# Altium schematic symbol library Velvet_Controller_v1.1_2022.SchLib: 36 symbols
Pins are listed as number, name and electrical type; pins without a type are passive.

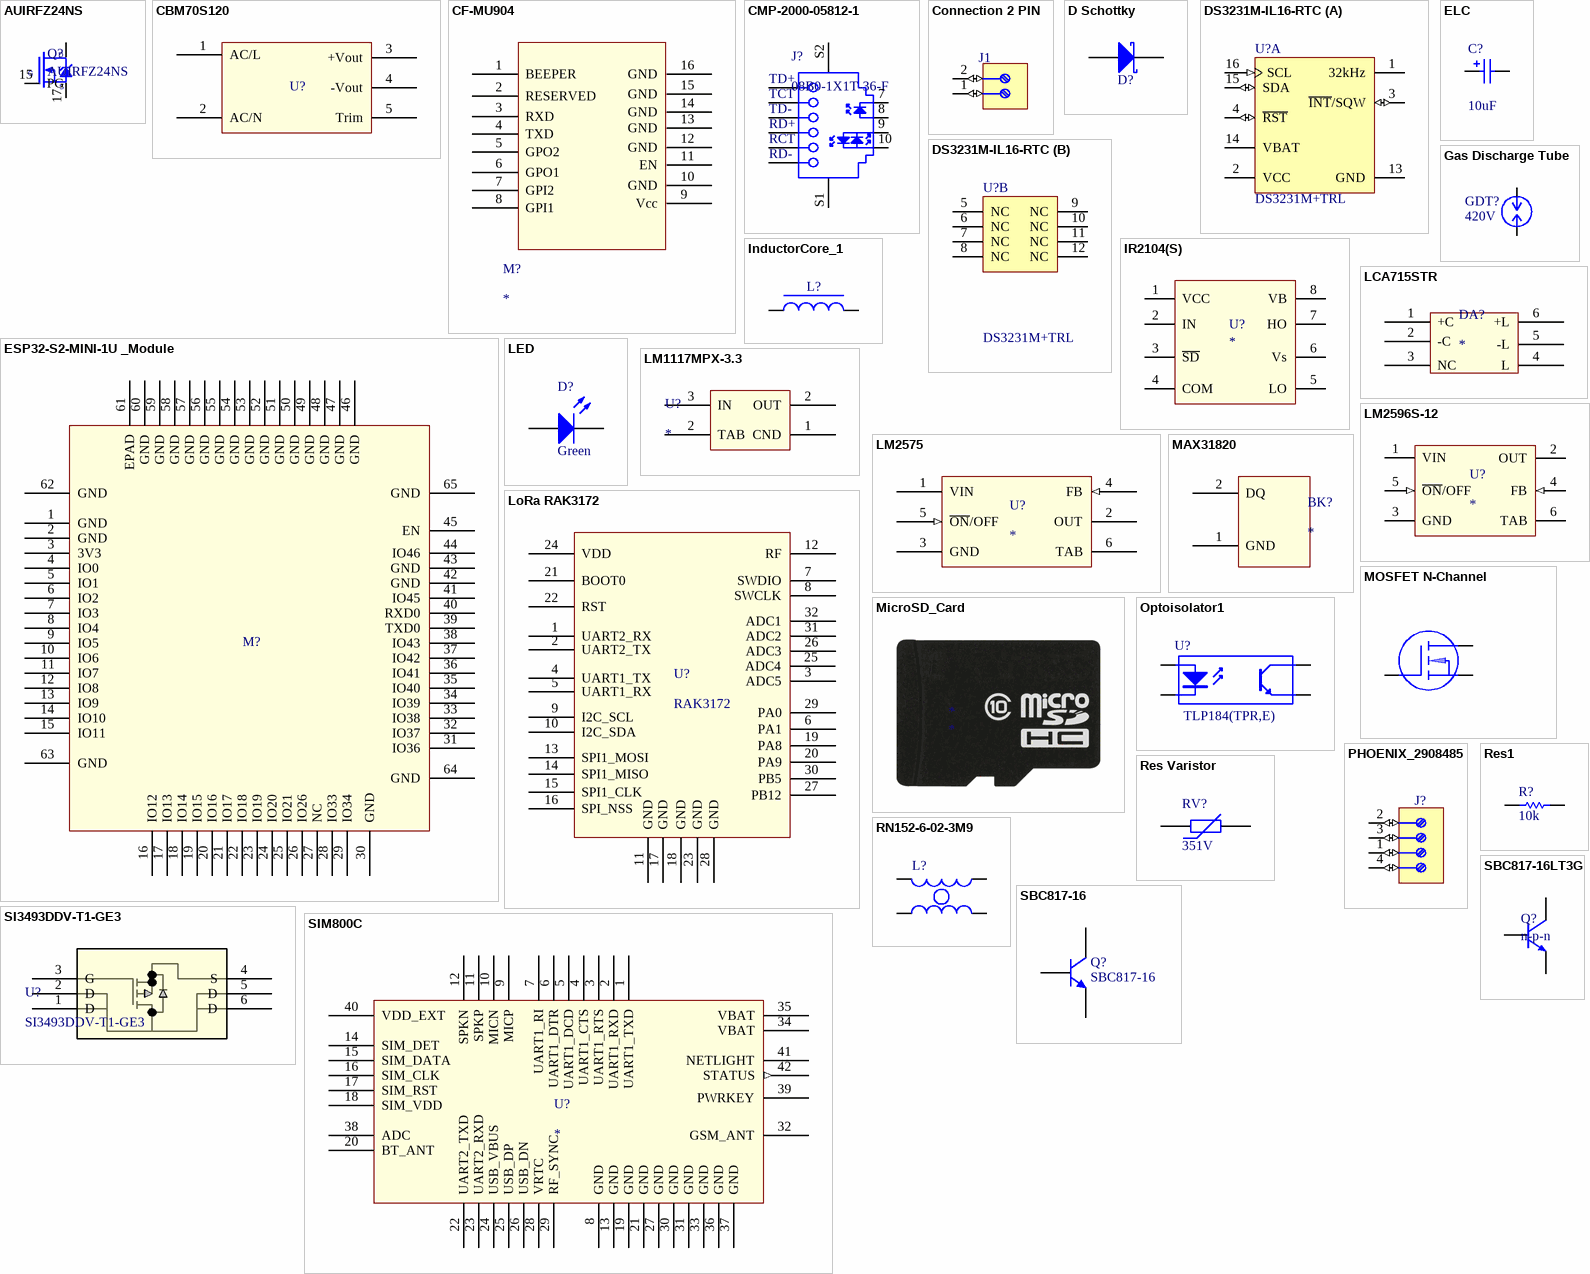
[diagram p0: symbols AUIRFZ24NS to SIM800C]

## AUIRFZ24NS
designator Q?
N-Chanel MOSFET AUIRFZ24N
pins: 15 PG, 16, 17
text: D; G; S

## CBM70S120
designator U?
AC-DC ~230-12
footprint MOD: CBM70S (AC/DC CONVERTER)
pins: 1 AC/L (power), 2 AC/N (power), 3 +Vout (power), 4 -Vout (power), 5 Trim

## CF-MU904
designator M?
footprint CF-MU904 (UHF RFID reader module)
pins: 1 BEEPER (power), 2 RESERVED, 3 RXD, 4 TXD, 5 GPO2, 6 GPO1, 7 GPI2, 8 GPI1, 9 Vcc (power), 10 GND (power), 11 EN (power), 12 GND (power), 13 GND (power), 14 GND (power), 15 GND (power), 16 GND (power)

## CMP-2000-05812-1
designator J?, comment 08B0-1X1T-36-F
MagJack RJ45 Receptacle, Right Angle, -40 to 85 degC, 10-Pin THD, RoHS, Tray; Manufacturer: Bel Fuse; Number of Ports: 1; Shielding: Shielded,EMIFinger; Number of Cores per Jack: 4; Catalog Drawings: MagJackICM; LED Color: Green,Orange-Yellow; Tab Direction: Up; Shield Material: CopperAlloy; Featured Product: Bel-MagJackIntegratedConnectorModulesConnectivitySolutionsMagneticsSolutions; Online Catalog: MagJack®Series; Other Names: 08B01X1T36-F08B01X1T36F507-1446; Product Training Modules: MagJack®IntegratedMagneticsModularJacks; Datasheet Version: Rev. C, 01/2014; Family: ModularConnectors-JacksWithMagnetics; Series: MagJack®; Mounting Type: ThroughHole; Package Reference: 08B0-1X1T-36-F; Datasheet URL: http://belfuse.com/pdfs/08B0-1X1T-36-F.pdf; Applications: 10/100Base-T,AutoMDIX; Connector Type: RJ45; Category: Connectors,Interconnects; Mounting Technology: ThroughHole; Housing Material: PolybutyleneTerephthalate(PBT); Package Description: 10-Pin Through Hole Device, Body 26.17 x 19.11 mm; Contact Material: -; Manufacturer URL: http://belfuse.com/; Termination: Solder; Contact Finish Thickness: 15µin(0.38µm); Packaging: Tray; Standard Package: 60; Features: BoardGuide; Operating Temperature: -40°C~85°C; Height Above Board: 0.531"(13.50mm); Orientation: 90°Angle(Right); Contact Finish: Gold; Number of Rows: 1
footprint BELF-08B0-1X1T-36-F_V (RJ45, 10-Leads, Body 26.17x19.11mm)
footprint BELF-08B0-1X1T-36-F_V (RJ45, 10-Leads, Body 26.17x19.11mm)
pins: 1 TD+, 2 TCT, 3 TD-, 4 RD+, 5 RCT, 6 RD-, 7, 8, 9, 10, S1, S2

## Connection 2 PIN
designator J1
Connection -POENIX; Part Number: PHOENIX_1715721; Part Description: 17.5A, 400V, Terminal Block, Pitch 5.08mm, 2 Positions, Screw Connection; Manufacturer: PHOENIX CONTACT; Manufacturer Part Number: 1715721 (MKDS 1,5/2-5,08); PressFit: No; Component Kind: Standard; Component Type: Standard; Footprint: PHOENIX_1715721; Pin Count: 2; Mounted: Yes; Socket: No; SMD: No; Sense: No; Status: None; ComponentHeight: 13.8mm; HelpURL: \\cern.ch\dfs\Applications\Altium\Datasheets\PHOENIX_1715721.pdf; Author: CERN DEM JLC; CreateDate: 06.01.2010; LatestRevisionDate: 25.02.2013
footprint Connector -PHOENIX_1715721 (Terminal Block, 17.5A 400V, Pitch 5.08mm, 2 Positions, Screw Connection)
pins: 1 (io), 2 (io)

## D Schottky
designator D?  (value not drawn)
MBR0520LT1GOSCT; Manufacturer: ON Semiconductor; Voltage - DC Reverse (Vr) (Max): 20V; Current - Average Rectified (Io): 500mA; Voltage - Forward (Vf) (Max) @ If: 385mV @ 500mA; Speed: Fast Recovery =< 500ns, > 200mA (Io); Current - Reverse Leakage @ Vr: 250µA @ 20V; Supplier 1: Digi-Key; Supplier Part Number 1: MBR0520LT1GOSCT-ND; Manufacturer Part Number: MBR0520LT1G; RoHS: RoHS Compliant; Category: Discrete Semiconductor Products; Stock 1: 83745; Pricing 1: 1=0.33, 10=0.274, 100=0.145, 500=0.09534, 1000=0.06496 (USD); Packaging: Cut Tape (CT); Diode Type: Schottky; Reverse Recovery Time (trr): -; Capacitance @ Vr, F: -; Mounting Type: Surface Mount; Package / Case: SOD-123; Supplier Device Package: SOD-123; Operating Temperature - Junction: -65°C ~ 125°C; ComponentLink1URL: http://www.onsemi.com/pub_link/Collateral/MBR0520LT1-D.PDF; ComponentLink1Description: http://www.onsemi.com/pub_link/Collateral/MBR0520LT1-D.PDF
footprint D-Schottky (40 V 3 A)
pins: 1 A, 2 K

## DS3231M-IL16-RTC
designator U?, comment DS3231M+TRL
+/-5ppm, MEMS based Real-Time Clock, I2C Interface, 16-Pin SO, -40 to 85 degC, Pb-Free, Reel; ComponentLink2URL: http://datasheets.maxim-ic.com/en/ds/DS3231M.pdf; PackageVersion: revD, 2010; ComponentLink3Description: Package Specification; Code_JEDEC: MS-013-AA; PackageDescription: 16-Pin Small-Outline IC, Wide (0.3in), 1.27 mm Pitch, SOIC (W), Pb-Free; ComponentLink1Description: Manufacturer URL; DatasheetVersion: Rev 3, Dec-2011; Code_IPC: SOIC127P1030-16; ComponentLink3URL: http://pdfserv.maxim-ic.com/package_dwgs/21-0042.PDF; PackageReference: W16MK+1; ComponentLink1URL: http://www.maxim-ic.com; ComponentLink2Description: Datasheet
footprint DS3231-RTC (SOIC127P1032X265-16N)
footprint W16MK+1_L (SOIC, 16-Leads, Body 10.3x7.5mm, Pitch 1.27mm, IPC High Density)
footprint W16MK+1_M (SOIC, 16-Leads, Body 10.3x7.5mm, Pitch 1.27mm, IPC Low Density)
footprint DS3231-RTC (SOIC-16)
part A pins: 1 32kHz (oc), 2 VCC (power), 3 ~{INT}/SQW (io), 4 ~{RST} (io), 13 GND (power), 14 VBAT (power), 15 SDA (io), 16 SCL (in)
part B pins: 5 NC, 6 NC, 7 NC, 8 NC, 9 NC, 10 NC, 11 NC, 12 NC

## ELC
designator C?  value 10uF  (hidden comment: ELC)
Polarized Capacitor (Radial); Published: 8-Jun-2000; LatestRevisionDate: 17-Jul-2002; LatestRevisionNote: Re-released for DXP Platform.; PackageReference: RB7.6-15; Publisher: Altium Limited
footprint ELC100
footprint ELC200
footprint C500 (30 mm cond)
footprint SMD(1206) (1206)
pins: 1, 2
1 alternate drawing of the same symbol

## ESP32-S2-MINI-1U _Module
designator M?  (value not drawn)
Wi-Fi module; Datasheet: https://www.espressif.com/en/support/download/documents
footprint ESP32-S2-MINI-1U (SMD MODULE, ESP32-S2FN4R2 WITH 4)
pins: 1 GND (power), 2 GND (power), 3 3V3 (power), 4 IO0, 5 IO1, 6 IO2, 7 IO3, 8 IO4, 9 IO5, 10 IO6, 11 IO7, 12 IO8, 13 IO9, 14 IO10, 15 IO11, 16 IO12, 17 IO13, 18 IO14, 19 IO15, 20 IO16, 21 IO17, 22 IO18, 23 IO19, 24 IO20, 25 IO21, 26 IO26, 27 NC, 28 IO33, 29 IO34, 30 GND (power), 31 IO36, 32 IO37, 33 IO38, 34 IO39, 35 IO40, 36 IO41, 37 IO42, 38 IO43, 39 TXD0, 40 RXD0, 41 IO45, 42 GND, 43 GND, 44 IO46, 45 EN (power), 46 GND (power), 47 GND (power), 48 GND (power), 49 GND (power), 50 GND (power), 51 GND (power), 52 GND (power), 53 GND (power), 54 GND (power), 55 GND (power), 56 GND (power), 57 GND (power), 58 GND (power), 59 GND (power), 60 GND (power), 61 EPAD (power), 62 GND (power), 63 GND, 64 GND, 65 GND (power)

## Gas Discharge Tube
designator GDT?  Voltage - DC Spark Over (Nom): 420V  (hidden comment: Gas Discharge Tube)
Manufacturer: TE Connectivity Raychem Circuit Protection; Manufacturer Part Number: GTCA28-421M-R05; Impulse Discharge Current (8/20µs): 5000A (5kA); Tolerance: ±20%; Number of Poles: 2; Fail Short: No; Supplier 1: Digi-Key; Supplier Part Number 1: GTCA28-421M-R05-ND; RoHS: RoHS Compliant; Category: Circuit Protection; Stock 1: 994; Pricing 1: 1=0.56, 10=0.517, 100=0.47, 500=0.3666, 1000=0.31584, 5000=0.28952, 10000=0.2444, 50000=0.235, 1000000=0.2256 (USD); Packaging: Tray; Mounting Type: Through Hole; Package / Case: Axial Cylinder; ComponentLink1URL: http://www.te.com/commerce/DocumentDelivery/DDEController?Action=srchrtrv&DocNm=SCD27654&DocType=SS&DocLang=EN; ComponentLink1Description: http://www.te.com/commerce/DocumentDelivery/DDEController?Action=srchrtrv&DocNm=SCD27654&DocType=SS&DocLang=EN
footprint GTCA28_TYCO_TYC
pins: 1, 2

## InductorCore_1
designator L?, comment Inductor  (value not drawn)
Inductors throgh hole; Manufacturer: Bourns Inc.; Manufacturer Part Number: FB20022-4B-RC; Impedance @ Frequency: 900 Ohm @ 100MHz; Current Rating: 5A; Filter Type: Differential Mode - Single; Supplier 1: Digi-Key; Supplier Part Number 1: FB20022-4B-RC-ND; RoHS: RoHS Compliant; Category: Filters; Stock 1: 1456; Pricing 1: 1=0.53, 10=0.445, 25=0.382, 50=0.342, 100=0.3023, 250=0.27048, 500=0.25456, 1000=0.23125 (USD); Packaging: Bulk; DC Resistance (DCR): -; Package / Case: Radial; Mounting Type: Through Hole; Height (Max): 0.394" (10.01mm); Size / Dimension: 0.236" Dia (5.99mm)
footprint FB20022-4B-RC (Ferrite bead)
footprint RLB0608
pins: 1, 2

## IR2104(S)
designator U?
pins: 1 VCC (power), 2 IN, 3 ~{SD}, 4 COM (power), 5 LO, 6 Vs (power), 7 HO, 8 VB (power)

## LCA715STR
designator DA?
LCA715S-TTP
footprint LCA715STR (SOT23, 6 Pin Surface Mount (1000/Reel))
pins: 1 +C (power), 2 -C (power), 3 NC (power), 4 L (power), 5 -L (power), 6 +L (power)

## LED
designator D?  Colour: Green  (hidden comment: LED)
Led 0805; Manufacturer: Vishay Lite-On; Manufacturer Part Number: LTST-S220GKT; ID: 3; Lens Colour: Clear,Colorless; Viewing Angle: 130°; Lens Style: Clear,Diffused,Colorless,Rectangular; Luminous Intensity: 10mcd; Forward Voltage: 2.1V; Forward Current: 30mA; Power Rating: 100mW; Dominant Wavelength: 569nm; Test Current: 20mA; Lens Transparency: Clear; Number of Elements: 1; Wavelength: 565nm; Reverse Voltage: 5V; Supplier 1: Digi-Key; Supplier Part Number 1: 160-1218-6-ND; Stock 1: 87001; Pricing 1: 1=0.27, 10=0.199, 25=0.1464, 100=0.1045, 250=0.07108, 500=0.0627, 1000=0.04912 (USD); Mount: Surface Mount; Case/Package: 0805; Number of Pins: 2; Case Code (Metric): 2012; Case Code (Imperial): 0805; Min Operating Temperature: -55°C; Max Operating Temperature: 85°C; Package Quantity: 1; Packaging: Tape and Reel; Illumination Colour: Green; Power Dissipation: 100mW; Number of LEDs: 1; Length: 2.1mm; Height: 0.6mm; Width: 1mm; Depth: 0.6mm; Radiation Hardening: No; Lead Free: Lead Free; ComponentLink1URL: https://datasheet.ciiva.com/2110/ltst-s220gkt-2110016.pdf; ComponentLink1Description: https://datasheet.ciiva.com/2110/ltst-s220gkt-2110016.pdf; ComponentLink2URL: https://datasheet.ciiva.com/11775/0900766b80dc0b6e-11775442.pdf; ComponentLink2Description: https://datasheet.ciiva.com/11775/0900766b80dc0b6e-11775442.pdf; ComponentLink3URL: https://datasheet.ciiva.com/15118/getdatasheetpartid-221136-15118117.pdf; ComponentLink3Description: https://datasheet.ciiva.com/15118/getdatasheetpartid-221136-15118117.pdf; ComponentLink4URL: https://datasheet.ciiva.com/2110/ltst-s220gkt-2110017.pdf; ComponentLink4Description: https://datasheet.ciiva.com/2110/ltst-s220gkt-2110017.pdf; ComponentLink5URL: https://datasheet.ciiva.com/16444/ltst-s220gkt-16444773.pdf; ComponentLink5Description: https://datasheet.ciiva.com/16444/ltst-s220gkt-16444773.pdf
footprint Led 0805 blue
footprint Led 0805 green (Body 2.0 x 1.2 mm (LxW typ))
footprint Led 0805 orange
footprint Led 0805 red
footprint Led 0805 yellow
pins: 1 A, 2 K

## LM1117MPX-3.3
designator U?
footprint LM1117IMPX-3.3 (SOT 223)
pins: 1 CND (power), 2 TAB (power), 2 OUT (power), 3 IN (power)

## LM2575
designator U?
footprint LM2575 (D2PAK  D2T SUFFIX  CASE 936A_6 pin)
pins: 1 VIN (power), 2 OUT (power), 3 GND (power), 4 FB (in), 5 ~{ON}/OFF (in), 6 TAB (power)

## LM2596S-12
designator U?
footprint LM2596S (TO-263 6 Pin)
pins: 1 VIN (power), 2 OUT (power), 3 GND (power), 4 FB (in), 5 ~{ON}/OFF (in), 6 TAB (power)

## LoRa RAK3172
designator U?, comment RAK3172
footprint RAK3172 (SMD RF MODULE)
pins: 1 UART2_RX, 2 UART2_TX, 3 ADC5 (power), 4 UART1_TX, 5 UART1_RX, 6 PA1 (power), 7 SWDIO (power), 8 SWCLK (power), 9 I2C_SCL, 10 I2C_SDA, 11 GND, 12 RF (power), 13 SPI1_MOSI, 14 SPI1_MISO, 15 SPI1_CLK, 16 SPI_NSS, 17 GND, 18 GND, 19 PA8 (power), 20 PA9 (power), 21 BOOT0, 22 RST, 23 GND, 24 VDD (power), 25 ADC4 (power), 26 ADC3 (power), 27 PB12 (power), 28 GND, 29 PA0 (power), 30 PB5 (power), 31 ADC2 (power), 32 ADC1 (power)

## MAX31820
designator BK?
MAX31820PAR  temper sensor
footprint GTCA28 (GasRazriad)
pins: 1 GND (power), 2 DQ (power)

## MicroSD_Card
designator *  (graphical)

## MOSFET N-Channel
designator Q?
footprint DPAK (D-Pak, Body 6,2x6,7mm)
pins: 1, 2, 3

## Optoisolator1
designator U?  Manufacturer Part Number: TLP184(TPR,E)  (hidden comment: Optoisolator1)
4-Pin Phototransistor Optocoupler; Manufacturer: Toshiba; Collector Emitter Voltage (VCEO): 80V; Collector Emitter Saturation Voltage: 300mV; Max Collector Current: 50mA; Max Power Dissipation: 200mW; Number of Channels: 1; Forward Voltage: 1.4V; Forward Current: 20mA; Current Transfer Ratio: 400%; Isolation Voltage: 3.75kV; Direction: Unidirectional; Peak Pulse Power: 400W; Max Reverse Leakage Current: 20uA; Clamping Voltage: 14.5V; Reverse Standoff Voltage: 6.5V; Min Breakdown Voltage: 7.2V; Test Current: 10mA; Element Configuration: Single; Peak Pulse Current: 160A; Supplier 1: Digi-Key; Supplier Part Number 1: TLP184(TPRE)CT-ND; RoHS: Yes; Stock 1: 8604; Pricing 1: 1 = 0,73000, 10 = 0,52800, 25 = 0,43080, 100 = 0,34460, 250 = 0,29076, 500 = 0,24768, 1000 = 0,19384 (USD); Mount: Surface Mount; Case/Package: SMD/SMT; Number of Pins: 4; Min Operating Temperature: -55°C; Max Operating Temperature: 110°C; Packaging: Tape and Reel; Number of Elements: 1; Power Dissipation: 200mW; Package Quantity: 1; Max Output Voltage: 80V; Output Current per Channel: 50mA; Radiation Hardening: No; ComponentLink1URL: https://datasheet.ciiva.com/2086/tlp184-datasheet-en-20140908-2086688.pdf?src-supplier=Digi-Key; ComponentLink1Description: https://datasheet.ciiva.com/2086/tlp184-datasheet-en-20140908-2086688.pdf?src-supplier=Digi-Key
footprint DIP-4 (DIP; 4 Leads; Row Spacing 7.62 mm; Pitch 2.54 mm)
footprint TLP184 (SOP, 4-Leads, Body 3,75x4,60mm, Pitch 2,54mm, IPC Medium Density)
footprint LTV-817S_LTO-L
pins: 1 A "Anode", 2 K "Cathode", 3 E "Emitter", 4 C "Collector"

## PHOENIX_2908485
designator J?
Terminal Block, 4 Positions, 1 to 4 With Screw Connection
pins: 1 (io), 2 (io), 3 (io), 4 (io)

## Res1
designator R?  Resistance: 10k  (hidden comment: Res1)
Chip Resistor; Manufacturer: Panasonic; Manufacturer Part Number: ERJ-3GEYJ103V; Tolerance: 5%; Power Rating: 100mW; Voltage Rating: 75V; Temperature Coefficient: 200ppm/°C; Voltage Rating (DC): 50V; Supplier 1: Digi-Key; Supplier Part Number 1: P10KGDKR-ND; Stock 1: 10740434; Pricing 1: 1=0.1, 10=0.054, 100=0.022, 1000=0.00988, 2500=0.00858 (USD); Mount: Surface Mount; Case/Package: 0603; Weight: 7.1E-05oz; Case Code (Imperial): 0603; Case Code (Metric): 1608; Contact Plating: Tin; Min Operating Temperature: -55°C; Max Operating Temperature: 155°C; Packaging: Tape and Reel; Package Quantity: 1; Composition: Thick Film; Termination: SMD/SMT; Number of Terminations: 2; Military Standard: Not; Max Power Dissipation: 100mW; Working Voltage: 75V; Features: Automotive AEC-Q200; Length: 1.6mm; Height: 0.45mm; Width: 0.8mm; Depth: 0.8mm; REACH SVHC: No SVHC; Lead Free: Lead Free; ComponentLink1URL: https://datasheet.ciiva.com/34303/2007265-34303757.pdf; ComponentLink1Description: https://datasheet.ciiva.com/34303/2007265-34303757.pdf; ComponentLink2URL: https://datasheet.ciiva.com/11809/0900766b80f806dd-11809566.pdf; ComponentLink2Description: https://datasheet.ciiva.com/11809/0900766b80f806dd-11809566.pdf; ComponentLink3URL: https://datasheet.ciiva.com/28514/1678796-28514213.pdf; ComponentLink3Description: https://datasheet.ciiva.com/28514/1678796-28514213.pdf; ComponentLink4URL: https://datasheet.ciiva.com/30147/4aoa0000ce1-30147029.pdf; ComponentLink4Description: https://datasheet.ciiva.com/30147/4aoa0000ce1-30147029.pdf; ComponentLink5URL: https://datasheet.ciiva.com/46371/1678796-46371909.pdf; ComponentLink5Description: https://datasheet.ciiva.com/46371/1678796-46371909.pdf; ComponentLink6URL: https://datasheet.ciiva.com/24133/aoa0000ce1-37422-24133064.pdf; ComponentLink6Description: https://datasheet.ciiva.com/24133/aoa0000ce1-37422-24133064.pdf; ComponentLink7URL: https://datasheet.ciiva.com/46385/1678796-46385240.pdf; ComponentLink7Description: https://datasheet.ciiva.com/46385/1678796-46385240.pdf; ComponentLink8URL: https://datasheet.ciiva.com/17212/aoa0000ce1-17212106.pdf; ComponentLink8Description: https://datasheet.ciiva.com/17212/aoa0000ce1-17212106.pdf; ComponentLink9URL: https://datasheet.ciiva.com/9117/aoa0000ce1-9117038.pdf; ComponentLink9Description: https://datasheet.ciiva.com/9117/aoa0000ce1-9117038.pdf; ComponentLink10URL: https://datasheet.ciiva.com/16740/aoa0000ce1-16740655.pdf; ComponentLink10Description: https://datasheet.ciiva.com/16740/aoa0000ce1-16740655.pdf; ComponentLink11URL: https://datasheet.ciiva.com/48531/aoa0000ce1-48531887.pdf; ComponentLink11Description: https://datasheet.ciiva.com/48531/aoa0000ce1-48531887.pdf
footprint 0603_R
footprint Res-0805
footprint Res-1206
footprint Res-1812
pins: 1, 2

## Res Varistor
designator RV?  Varistor Voltage (Min): 351V  (hidden comment: Res Varistor)
Manufacturer: EPCOS Inc; Manufacturer Part Number: S14K250; ID: 11; Current - Surge: 4.5kA; Number of Circuits: 1; Maximum AC Volts: 250VAC; Maximum DC Volts: 320VDC; Energy: 65J; Published: 24-Mar-1999; LatestRevisionDate: 29-May-2009; LatestRevisionNote: IPC-7351 Footprint Added.; PackageVersion: Mar-2003; PackageReference: 6-0805; Publisher: Altium Limited; PackageDescription: Chip Resistor 0805 Case Size; Code_IPC: RESC2012; Supplier 1: Digi-Key; Supplier Part Number 1: 495-4375-ND; RoHS: RoHS Compliant; Category: Circuit Protection; Stock 1: 1402; Pricing 1: 1=0.64, 10=0.449, 100=0.2959, 500=0.2192, 1000=0.18632, 5000=0.1644, 10000=0.15344 (USD); Packaging: Bulk; Package / Case: Disc 14mm; ComponentLink1URL: http://www.epcos.com/inf/70/db/var_11/SIOV_Leaded_StandarD.pdf; ComponentLink1Description: http://www.epcos.com/inf/70/db/var_11/SIOV_Leaded_StandarD.pdf
footprint VARS_B72214S0271K101_TDK
pins: 1, 2

## RN152-6-02-3M9
designator L?  (value not drawn)
RN152-6-02-3M9 Current-compensated Chokes; Manufacturer: Schaffner EMC Inc; Manufacturer Part Number: RN114-1-02; Value: 10mH; ID: 1; Filter Type: Power Line; Number of Lines: 2; Inductance: 15mH; Current: 1A; DC Resistance (DCR): 375 mOhm; Supplier 1: Digi-Key; Supplier Part Number 1: 817-1539-ND; RoHS: RoHS Compliant; Category: Filters; Stock 1: 4897; Pricing 1: 1=2.84, 10=2.599, 25=2.3624, 50=1.9846, 100=1.701, 250=1.60652, 500=1.512, 1000=1.4175, 2500=1.3965 (USD); Packaging: Tray; Impedance: -; Mounting Type: Through Hole; Size / Dimension: 0.886" L x 0.846" W (22.50mm x 21.50mm); Height (Max): 0.531" (13.50mm); Package / Case: Horizontal, 4 PC Pin; Operating Temperature: -40°C ~ 125°C; ComponentLink1URL: http://schaffner.com/en/products/datasheet-low-res/product/rn-series-common-mode-chokes.pdf; ComponentLink1Description: http://schaffner.com/en/products/datasheet-low-res/product/rn-series-common-mode-chokes.pdf
footprint IND: RN152 (2 Line Common Mode Choke Through Hole Filter)
pins: 1, 2, 3, 4

## SBC817-16
designator Q?
NPN General-purpose Transistor; Manufacturer: ON Semiconductor; Manufacturer Part Number: BC817-16LT3G; hFE Min: 100; Max Power Dissipation: 300mW; Collector Emitter Voltage (VCEO): 45V; Max Collector Current: 500mA; Transition Frequency: 100MHz; Collector Base Voltage (VCBO): 50V; Emitter Base Voltage (VEBO): 5V; Collector Emitter Saturation Voltage: 700mV; Element Configuration: Single; Number of Elements: 1; ComponentLink1URL: http://www.mccsemi.com/up_pdf/BC817-16~BC817-40(SOT-23).pdf; ComponentLink1Description: http://www.mccsemi.com/up_pdf/BC817-16~BC817-40(SOT-23).pdf; Supplier 1: Digi-Key; Supplier Part Number 1: BC817-16LT3GOSDKR-ND; Stock 1: 22032; Pricing 1: 1=0.13, 10=0.121, 100=0.0658, 500=0.04048, 1000=0.02759 (USD); Case/Package: SOT-23-3; Number of Pins: 3; Contact Plating: Tin,Matte; Min Operating Temperature: -55°C; Max Operating Temperature: 150°C; Package Quantity: 10000; Packaging: Tape and Reel; Collector Emitter Breakdown Voltage: 45V; Polarity: NPN; Power Dissipation: 300mW; Frequency: 100MHz; Max Breakdown Voltage: 45V; Gain Bandwidth Product: 100MHz; Radiation Hardening: No; Lead Free: Lead Free; Halogen Free: Halogen Free; ComponentLink2URL: https://datasheet.ciiva.com/15139/getdatasheetpartid-84401-15139109.pdf; ComponentLink2Description: https://datasheet.ciiva.com/15139/getdatasheetpartid-84401-15139109.pdf; ComponentLink3URL: https://datasheet.ciiva.com/980/bc817-16lt1-d-980715.pdf; ComponentLink3Description: https://datasheet.ciiva.com/980/bc817-16lt1-d-980715.pdf; ComponentLink4URL: https://datasheet.ciiva.com/26115/bc817-16lt1-d-26115598.pdf; ComponentLink4Description: https://datasheet.ciiva.com/26115/bc817-16lt1-d-26115598.pdf; ComponentLink5URL: https://datasheet.ciiva.com/11204/bc817-16lt1-d-11204335.pdf; ComponentLink5Description: https://datasheet.ciiva.com/11204/bc817-16lt1-d-11204335.pdf
footprint SOT23-3 (SOT23, 3-Leads, Body 2,90x2,30mm, Pitch 0,95mm, IPC Medium Density)
footprint SOT23_L (SOT23, 3-Leads, Body 2.9x1.3mm, Pitch 0.95mm, Lead Span 2.3mm, IPC High Density)
footprint SOT23_M (SOT23, 3-Leads, Body 2.9x1.3mm, Pitch 0.95mm, Lead Span 2.3mm, IPC Low Density)
simulation model QBC817-16 (NPN)
signal-integrity model BC817-16
footprint Bipolar Trans  SOT23-3 (SOT23, 3-Leads, Body 2.9x1.3mm, Pitch 0.95mm, Lead Span 2.5mm, IPC Low Density)
pins: 1 B, 2 E, 3 C

## SBC817-16LT3G
designator Q?, comment n-p-n
Bipolar transistor
footprint Bipolar Trans  SOT23-3 (SOT23, 3-Leads, Body 2.9x1.3mm, Pitch 0.95mm, Lead Span 2.5mm, IPC Low Density)
pins: 1 B, 2 E, 3 K

## SI3493DDV-T1-GE3
designator U?
P-Channel 20-V MOSFET; Mfr_Name: Vishay; Copyright: Copyright (C) 2022 Ultra Librarian. All rights reserved.; Manufacturer_Part_Number: SI3493DDV-T1-GE3; Digi-Key_Part_Number_1: SI3493DDV-T1-GE3TR-ND; Digi-Key_Part_Number_2: SI3493DDV-T1-GE3CT-ND; Digi-Key_Part_Number_3: SI3493DDV-T1-GE3DKR-ND; RefDes: RefDes; Type: DEV
footprint SI3493DDV-T1-GE3 (N Channel transistor 6TSOP_VIS-L)
pins: 1 D, 2 D, 3 G, 4 S, 5 D, 6 D

## SIM800C
designator U?
GSM/GPS module
footprint GSM SIM800C
pins: 1 UART1_TXD (power), 2 UART1_RXD (power), 3 UART1_RTS (power), 4 UART1_CTS, 5 UART1_DCD, 6 UART1_DTR, 7 UART1_RI, 8 GND, 9 MICP, 10 MICN, 11 SPKP, 12 SPKN, 13 GND, 14 SIM_DET, 15 SIM_DATA, 16 SIM_CLK, 17 SIM_RST, 18 SIM_VDD, 19 GND, 20 BT_ANT, 21 GND, 22 UART2_TXD, 23 UART2_RXD, 24 USB_VBUS, 25 USB_DP, 26 USB_DN, 27 GND, 28 VRTC, 29 RF_SYNC, 30 GND, 31 GND, 32 GSM_ANT, 33 GND (power), 34 VBAT (power), 35 VBAT (power), 36 GND (power), 37 GND (power), 38 ADC (power), 39 PWRKEY (power), 40 VDD_EXT (power), 41 NETLIGHT (power), 42 STATUS (out)

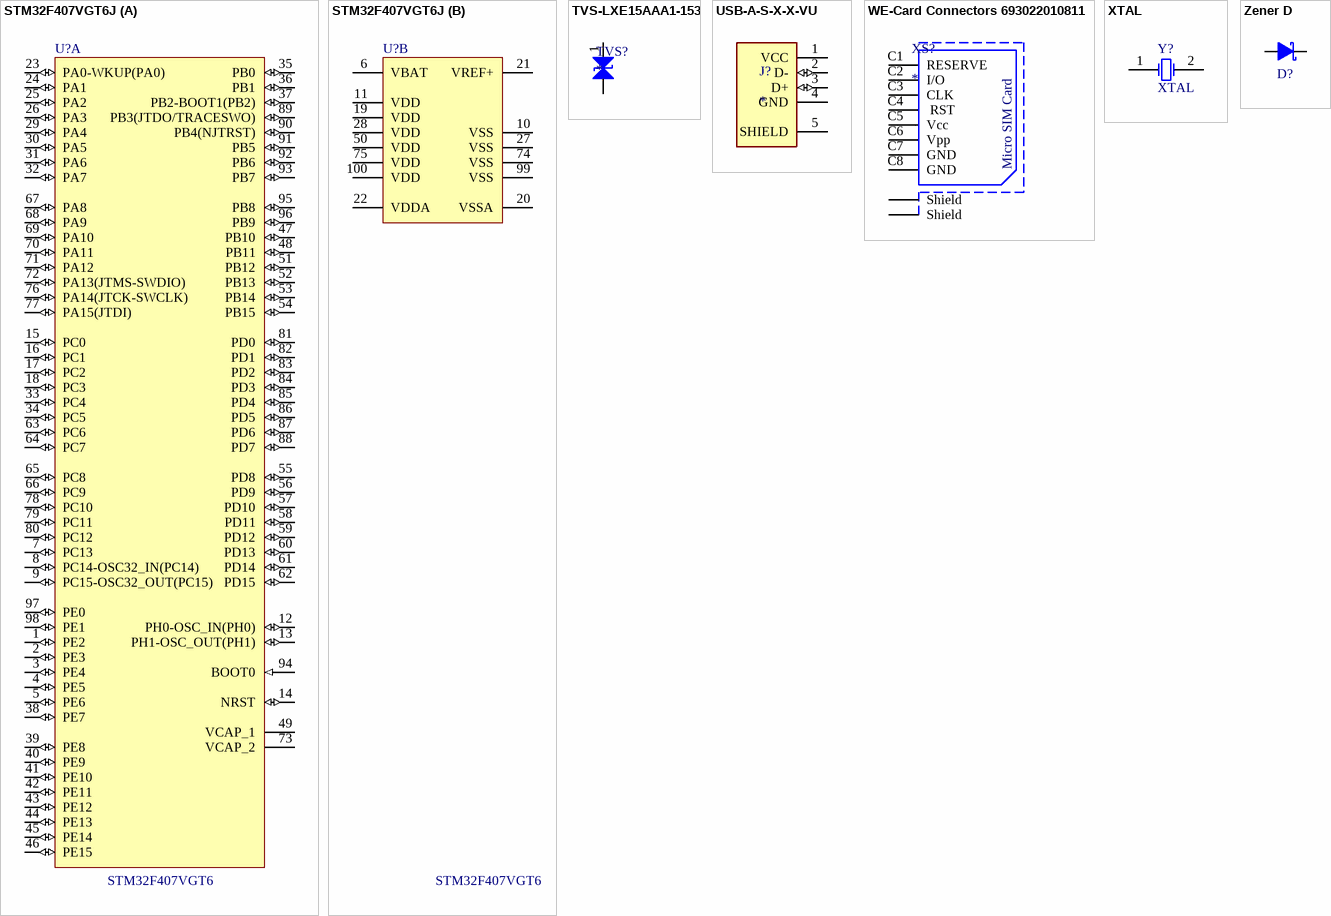
[diagram p1: symbols STM32F407VGT6J to Zener D]

## STM32F407VGT6J
designator U?  Manufacturer Part Number: STM32F407VGT6  (hidden comment: STM32F407VGT6J)
ARM Cortex-M4 32-bit MCU+FPU, 210 DMIPS, 1024 kB Flash, 192 kB Internal RAM, 82 I/Os, 100-pin LQFP, -40 to 85 degC, Tray; Manufacturer: STMicroelectronics; Interface: I2C,SPI,USB,CAN,Ethernet,I2S,IrDA,UART,USART,LIN,EBI/EMI; Number of I/Os: 82; Number of Timers/Counters: 14; Frequency: 168MHz; RAM Size: 196KB; Number of ADC Channels: 16; Number of PWM Channels: 2; Number of Ethernet Channels: 1; Max Supply Voltage: 3.6V; Min Supply Voltage: 1.8V; Data Bus Width: 32b; Number of SPI Channels: 3; Watchdog Timer: Yes; Memory Size: 1024KB; Peripherals: Brown-out Detect/Reset,POR,PWM,WDT,DMA,LCD,I2C; ComponentLink1Description: Manufacturer URL; ComponentLink1URL: http://www.st.com/web/en/home.html; ComponentLink2Description: Datasheet; ComponentLink2URL: http://www.st.com/st-web-ui/static/active/en/resource/technical/document/datasheet/DM00037051.pdf; ComponentLink3Description: Package Specification; ComponentLink3URL: http://www.st.com/st-web-ui/static/active/en/resource/technical/document/data_brief/DM00071938.pdf; Supplier 1: Digi-Key; Supplier Part Number 1: 497-11605-ND; Stock 1: 9556; Pricing 1: 1=12.74, 10=11.713, 100=9.8925, 500=8.80006, 1000=8.07177 (USD); Case/Package: LQFP; Number of Pins: 100; Min Operating Temperature: -40°C; Max Operating Temperature: 85°C; Package Quantity: 90; Number of UART Channels: 2; Packaging: Tray; Number of Programmable I/O: 82; Oscillator Type: Internal; Max Frequency: 168MHz; Number of I2C Channels: 3; Address Bus Width: 32b; Memory Type: FLASH; Core Architecture: ARM; Length: 14.2mm; Height: 1.45mm; Width: 14.2mm; Radiation Hardening: No; REACH SVHC: No SVHC; Lead Free: Lead Free; ComponentLink4URL: https://datasheet.ciiva.com/14132/stm32f407vgt6-tds-eng-14132567.pdf; ComponentLink4Description: https://datasheet.ciiva.com/14132/stm32f407vgt6-tds-eng-14132567.pdf; ComponentLink5URL: https://datasheet.ciiva.com/4842/dm00037051-492832-4842280.pdf; ComponentLink5Description: https://datasheet.ciiva.com/4842/dm00037051-492832-4842280.pdf; ComponentLink6URL: https://datasheet.ciiva.com/48687/001075599-da-01-en-mcu-32bt-1mb-stm32f407vgt6-lqfp-100-stm-48687547.pdf; ComponentLink6Description: https://datasheet.ciiva.com/48687/001075599-da-01-en-mcu-32bt-1mb-stm32f407vgt6-lqfp-100-stm-48687547.pdf
footprint LQFP100_N (Thin QFP, 100-Leads, Body 14x14mm, Pitch 0.5mm, IPC Medium Density)
footprint STM-LQFP100_L (Thin QFP, 100-Leads, Body 14x14mm, Pitch 0.5mm, IPC High Density)
footprint STM-LQFP100_M (Thin QFP, 100-Leads, Body 14x14mm, Pitch 0.5mm, IPC Low Density)
footprint STM-LQFP100_V (Thin QFP, 100-Leads, Body 14x14mm, Pitch 0.5mm, ST Recommended)
part A pins: 1 PE2 (io) "PE2/TRACECLK/FSMC_A23/ETH_MII_TXD3/EVENTOUT", 2 PE3 (io) "PE3/TRACED0/FSMC_A19/EVENTOUT", 3 PE4 (io) "PE4/TRACED1/FSMC_A20/DCMI_D4/EVENTOUT", 4 PE5 (io) "PE5/TRACED2/FSMC_A21/TIM9_CH1/DCMI_D6/EVENTOUT", 5 PE6 (io) "PE6/TRACED3/FSMC_A22/TIM9_CH2/DCMI_D7/EVENTOUT", 7 PC13 (io) "PC13/EVENTOUT/RTC_OUT,RTC_TAMP1,RTC_TS", 8 PC14-OSC32_IN(PC14) (io) "PC14-OSC32_IN(PC14)/EVENTOUT/OSC32_IN", 9 PC15-OSC32_OUT(PC15) (io) "PC15-OSC32_OUT(PC15)/EVENTOUT/OSC32_OUT", 12 PH0-OSC_IN(PH0) (io) "PH0-OSC_IN(PH0)/EVENTOUT/OSC_IN", 13 PH1-OSC_OUT(PH1) (io) "PH1-OSC_OUT(PH1)/EVENTOUT/OSC_OUT", 14 NRST (io), 15 PC0 (io) "PC0/OTG_HS_ULPI_STP/EVENTOUT/ADC123_IN10", 16 PC1 (io) "PC1/ETH_MDC/EVENTOUT/ADC123_IN11", 17 PC2 (io) "PC2/SPI2_MISO/OTG_HS_ULPI_DIR/ETH_MII_TXD2/I2S2ext_SD/EVENTOUT/ADC123_IN12", 18 PC3 (io) "PC3/SPI2_MOSI/I2S2_SD/OTG_HS_ULPI_NXT/ETH_MII_TX_CLK/EVENTOUT/ADC123_IN13", 23 PA0-WKUP(PA0) (io) "PA0-WKUP(PA0)/USART2_CTS/UART4_TX/ETH_MII_CRS/TIM2_CH1_ETR/TIM5_CH1/TIM8_ETR/EVENTOUT/ADC123_IN0/WKUP", 24 PA1 (io) "PA1/USART2_RTS/UART4_RX/ETH_RMII_REF_CLK/ETH_MII_RX_CLK/TIM5_CH2/TIM2_CH2/EVENTOUT/ADC123_IN1", 25 PA2 (io) "PA2/USART2_TX/TIM5_CH3/TIM9_CH1/TIM2_CH3/ETH_MDIO/EVENTOUT/ADC123_IN2", 26 PA3 (io) "PA3/USART2_RX/TIM5_CH4/TIM9_CH2/TIM2_CH4/OTG_HS_ULPI_D0/ETH_MII_COL/EVENTOUT/ADC123_IN3", 29 PA4 (io) "PA4/SPI1_NSS/SPI3_NSS/USART2_CK/DCMI_HSYNC/OTG_HS_SOF/I2S3_WS/EVENTOUT/ADC12_IN4/DAC_OUT1", 30 PA5 (io) "PA5/SPI1_SCK/OTG_HS_ULPI_CK/TIM2_CH1_ETR/TIM8_CH1N/EVENTOUT/ADC12_IN5/DAC_OUT2", 31 PA6 (io) "PA6/SPI1_MISO/TIM8_BKIN/TIM13_CH1/DCMI_PIXCLK/TIM3_CH1/TIM1_BKIN/EVENTOUT/ADC12_IN6", 32 PA7 (io) "PA7/SPI1_MOSI/TIM8_CH1N/TIM14_CH1/TIM3_CH2/ETH_MII_RX_DV/TIM1_CH1N/ETH_RMII_CRS_DV/EVENTOUT/ADC12_IN7", 33 PC4 (io) "PC4/ETH_RMII_RX_D0/ETH_MII_RX_D0/EVENTOUT/ADC12_IN14", 34 PC5 (io) "PC5/ETH_RMII_RX_D1/ETH_MII_RX_D1/EVENTOUT/ADC12_IN15", 35 PB0 (io) "PB0/TIM3_CH3/TIM8_CH2N/OTG_HS_ULPI_D1/ETH_MII_RXD2/TIM1_CH2N/EVENTOUT/ADC12_IN8", 36 PB1 (io) "PB1/TIM3_CH4/TIM8_CH3N/OTG_HS_ULPI_D2/ETH_MII_RXD3/TIM1_CH3N/EVENTOUT/ADC12_IN9", 37 PB2-BOOT1(PB2) (io) "PB2-BOOT1(PB2)/EVENTOUT", 38 PE7 (io) "PE7/FSMC_D4/TIM1_ETR/EVENTOUT", 39 PE8 (io) "PE8/FSMC_D5/TIM1_CH1N/EVENTOUT", 40 PE9 (io) "PE9/FSMC_D6/TIM1_CH1/EVENTOUT", 41 PE10 (io) "PE10/FSMC_D7/TIM1_CH2N/EVENTOUT", 42 PE11 (io) "PE11/FSMC_D8/TIM1_CH2/EVENTOUT", 43 PE12 (io) "PE12/FSMC_D9/TIM1_CH3N/EVENTOUT", 44 PE13 (io) "PE13/FSMC_D10/TIM1_CH3/EVENTOUT", 45 PE14 (io) "PE14/FSMC_D11/TIM1_CH4/EVENTOUT", 46 PE15 (io) "PE15/FSMC_D12/TIM1_BKIN/EVENTOUT", 47 PB10 (io) "PB10/SPI2_SCK/I2S2_CK/I2C2_SCL/USART3_TX/OTG_HS_ULPI_D3/ETH_MII_RX_ER/TIM2_CH3/EVENTOUT", 48 PB11 (io) "PB11/I2C2_SDA/USART3_RX/OTG_HS_ULPI_D4/ETH_RMII_TX_EN/ETH_MII_TX_EN/TIM2_CH4/EVENTOUT", 49 VCAP_1 (power), 51 PB12 (io) "PB12/SPI2_NSS/I2S2_WS/I2C2_SMBA/USART3_CK/TIM1_BKIN/CAN2_RX/OTG_HS_ULPI_D5/ETH_RMII_TXD0/ETH_MII_TXD0/OTG_HS_ID/EVENTOUT", 52 PB13 (io) "PB13/SPI2_SCK/I2S2_CK/USART3_CTS/TIM1_CH1N/CAN2_TX/OTG_HS_ULPI_D6/ETH_RMII_TXD1/ETH_MII_TXD1/EVENTOUT/OTG_HS_VBUS", 53 PB14 (io) "PB14/SPI2_MISO/TIM1_CH2N/TIM12_CH1/OTG_HS_DM/USART3_RTS/TIM8_CH2N/I2S2ext_SD/EVENTOUT", 54 PB15 (io) "PB15/SPI2_MOSI/I2S2_SD/TIM1_CH3N/TIM8_CH3N/TIM12_CH2/OTG_HS_DP/EVENTOUT/RTC_REFIN", 55 PD8 (io) "PD8/FSMC_D13/USART3_TX/EVENTOUT", 56 PD9 (io) "PD9/FSMC_D14/USART3_RX/EVENTOUT", 57 PD10 (io) "PD10/FSMC_D15/USART3_CK/EVENTOUT", 58 PD11 (io) "PD11/FSMC_CLE/FSMC_A16/USART3_CTS/EVENTOUT", 59 PD12 (io) "PD12/FSMC_ALE/FSMC_A17/TIM4_CH1/USART3_RTS/EVENTOUT", 60 PD13 (io) "PD13/FSMC_A18/TIM4_CH2/EVENTOUT", 61 PD14 (io) "PD14/FSMC_D0/TIM4_CH3/EVENTOUT", 62 PD15 (io) "PD15/FSMC_D1/TIM4_CH4/EVENTOUT", 63 PC6 (io) "PC6/I2S2_MCK/TIM8_CH1/SDIO_D6/USART6_TX/DCMI_D0/TIM3_CH1/EVENTOUT", 64 PC7 (io) "PC7/I2S3_MCK/TIM8_CH2/SDIO_D7/USART6_RX/DCMI_D1/TIM3_CH2/EVENTOUT", 65 PC8 (io) "PC8/TIM8_CH3/SDIO_D0/TIM3_CH3/USART6_CK/DCMI_D2/EVENTOUT", 66 PC9 (io) "PC9/I2S_CKIN/MCO2/TIM8_CH4/SDIO_D1/I2C3_SDA/DCMI_D3/TIM3_CH4/EVENTOUT", 67 PA8 (io) "PA8/MCO1/USART1_CK/TIM1_CH1/I2C3_SCL/OTG_FS_SOF/EVENTOUT", 68 PA9 (io) "PA9/USART1_TX/TIM1_CH2/I2C3_SMBA/DCMI_D0/EVENTOUT/OTG_FS_VBUS", 69 PA10 (io) "PA10/USART1_RX/TIM1_CH3/OTG_FS_ID/DCMI_D1/EVENTOUT", 70 PA11 (io) "PA11/USART1_CTS/CAN1_RX/TIM1_CH4/OTG_FS_DM/EVENTOUT", 71 PA12 (io) "PA12/USART1_RTS/CAN1_TX/TIM1_ETR/OTG_FS_DP/EVENTOUT", 72 PA13(JTMS-SWDIO) (io) "PA13(JTMS-SWDIO)/JTMS-SWDIO/EVENTOUT", 73 VCAP_2 (power), 76 PA14(JTCK-SWCLK) (io) "PA14(JTCK-SWCLK)/JTCK-SWCLK/EVENTOUT", 77 PA15(JTDI) (io) "PA15(JTDI)/JTDI/SPI3_NSS/I2S3_WS/TIM2_CH1_ETR/SPI1_NSS/EVENTOUT", 78 PC10 (io) "PC10/SPI3_SCK/I2S3_CK/UART4_TX/SDIO_D2/DCMI_D8/USART3_TX/EVENTOUT", 79 PC11 (io) "PC11/UART4_RX/SPI3_MISO/SDIO_D3/DCMI_D4/USART3_RX/I2S3ext_SD/EVENTOUT", 80 PC12 (io) "PC12/UART5_TX/SDIO_CK/DCMI_D9/SPI3_MOSI/I2S3_SD/USART3_CK/EVENTOUT", 81 PD0 (io) "PD0/FSMC_D2/CAN1_RX/EVENTOUT", 82 PD1 (io) "PD1/FSMC_D3/CAN1_TX/EVENTOUT", 83 PD2 (io) "PD2/TIM3_ETR/UART5_RX/SDIO_CMD/DCMI_D11/EVENTOUT", 84 PD3 (io) "PD3/FSMC_CLK/USART2_CTS/EVENTOUT", 85 PD4 (io) "PD4/FSMC_NOE/USART2_RTS/EVENTOUT", 86 PD5 (io) "PD5/FSMC_NWE/USART2_TX/EVENTOUT", 87 PD6 (io) "PD6/FSMC_NWAIT/USART2_RX/EVENTOUT", 88 PD7 (io) "PD7/USART2_CK/FSMC_NE1/FSMC_NCE2/EVENTOUT", 89 PB3(JTDO/TRACESWO) (io) "PB3(JTDO/TRACESWO)/JTDO/TRACESWO/SPI3_SCK/I2S3_CK/TIM2_CH2/SPI1_SCK/EVENTOUT", 90 PB4(NJTRST) (io) "PB4(NJTRST)/NJTRST/SPI3_MISO/TIM3_CH1/SPI1_MISO/I2S3ext_SD/EVENTOUT", 91 PB5 (io) "PB5/I2C1_SMBA/CAN2_RX/OTG_HS_ULPI_D7/ETH_PPS_OUT/TIM3_CH2/SPI1_MOSI/SPI3_MOSI/DCMI_D10/I2S3_SD/EVENTOUT", 92 PB6 (io) "PB6/I2C1_SCL/TIM4_CH1/CAN2_TX/DCMI_D5/USART1_TX/EVENTOUT", 93 PB7 (io) "PB7/I2C1_SDA/FSMC_NL/DCMI_VSYNC/USART1_RX/TIM4_CH2/EVENTOUT", 94 BOOT0 (in) "BOOT0/VPP", 95 PB8 (io) "PB8/TIM4_CH3/SDIO_D4/TIM10_CH1/DCMI_D6/ETH_MII_TXD3/I2C1_SCL/CAN1_RX/EVENTOUT", 96 PB9 (io) "PB9/SPI2_NSS/I2S2_WS/TIM4_CH4/TIM11_CH1/SDIO_D5/DCMI_D7/I2C1_SDA/CAN1_TX/EVENTOUT", 97 PE0 (io) "PE0/TIM4_ETR/FSMC_NBL0/DCMI_D2/EVENTOUT", 98 PE1 (io) "PE1/FSMC_NBL1/DCMI_D3/EVENTOUT"
part B pins: 6 VBAT (power), 10 VSS (power), 11 VDD (power), 19 VDD (power), 20 VSSA (power), 21 VREF+ (power), 22 VDDA (power), 27 VSS (power), 28 VDD (power), 50 VDD (power), 74 VSS (power), 75 VDD (power), 99 VSS (power), 100 VDD (power)

## TVS-LXE15AAA1-153
designator TVS?
footprint LXES15_MUR-L (TVS)
pins: 1, 2

## USB-A-S-X-X-VU
designator J?
USB-A (USB TYPE-A) USB 2.0 Receptacle Connector 4 Position Through Hole, Right Angle; MF: Samtec; MP: USB-A-S-X-X-VU; Price: None; Availability: Unavailable; Value: *; Package: None
footprint CON: USB-A
footprint CON: USB-A
pins: 1 VCC (power), 2 D- (io), 3 D+ (io), 4 GND (power), 5 SHIELD

## WE-Card Connectors 693022010811
designator XS?
WR-CRD Micro SIM_Hinge_8 pins; Manufacturer: Würth Elektronik eiSos GmbH; partNo: 693022010811; ComponentLink1 Description: Manufacturer; ComponentLink2 Description: Datasheet; NoPins: 8; ComponentLink1URL: http://www.we-online.de; ComponentLink2URL: http://katalog.we-online.de/em/datasheet/693022010811.pdf; Created by: Karrer Zheng; Created Date: 10/20/2014
footprint 693022010811
pins: C1 RESERVE, C2 I/O , C3 CLK, C4  RST, C5 Vcc, C6 Vpp, C7 GND, C8 GND, Z1 Shield, Z2 Shield
text: Micro SIM Card

## XTAL
designator Y?
Crystal Oscillator
footprint XTAL1
footprint 85SMX (32768Hz)
pins: 1 OSC1, 2 OSC2

## Zener D
designator D?  (value not drawn)
SMAZ16-13-F; Manufacturer: Diodes Incorporated; Pd - Power Dissipation: 1 W; Vz - Zener Voltage: 16 V; Zener Current: 0.5 uA; Manufacturer Part Number: SMAZ16-13-F; Maximum Operating Temperature: + 150 C; Minimum Operating Temperature: - 65 C; Package / Case: SMA-2; Mounting Style: SMD/SMT; Product Category: Zener Diodes; Supplier Part Number: SMAZ16-FDICT-ND
footprint Zener D-SMA_DIO-L
pins: 1 A, 2 K